# Altium schematic symbol library UCDFR IC's.SchLib: 16 symbols
Pins are listed as number, name and electrical type; pins without a type are passive.

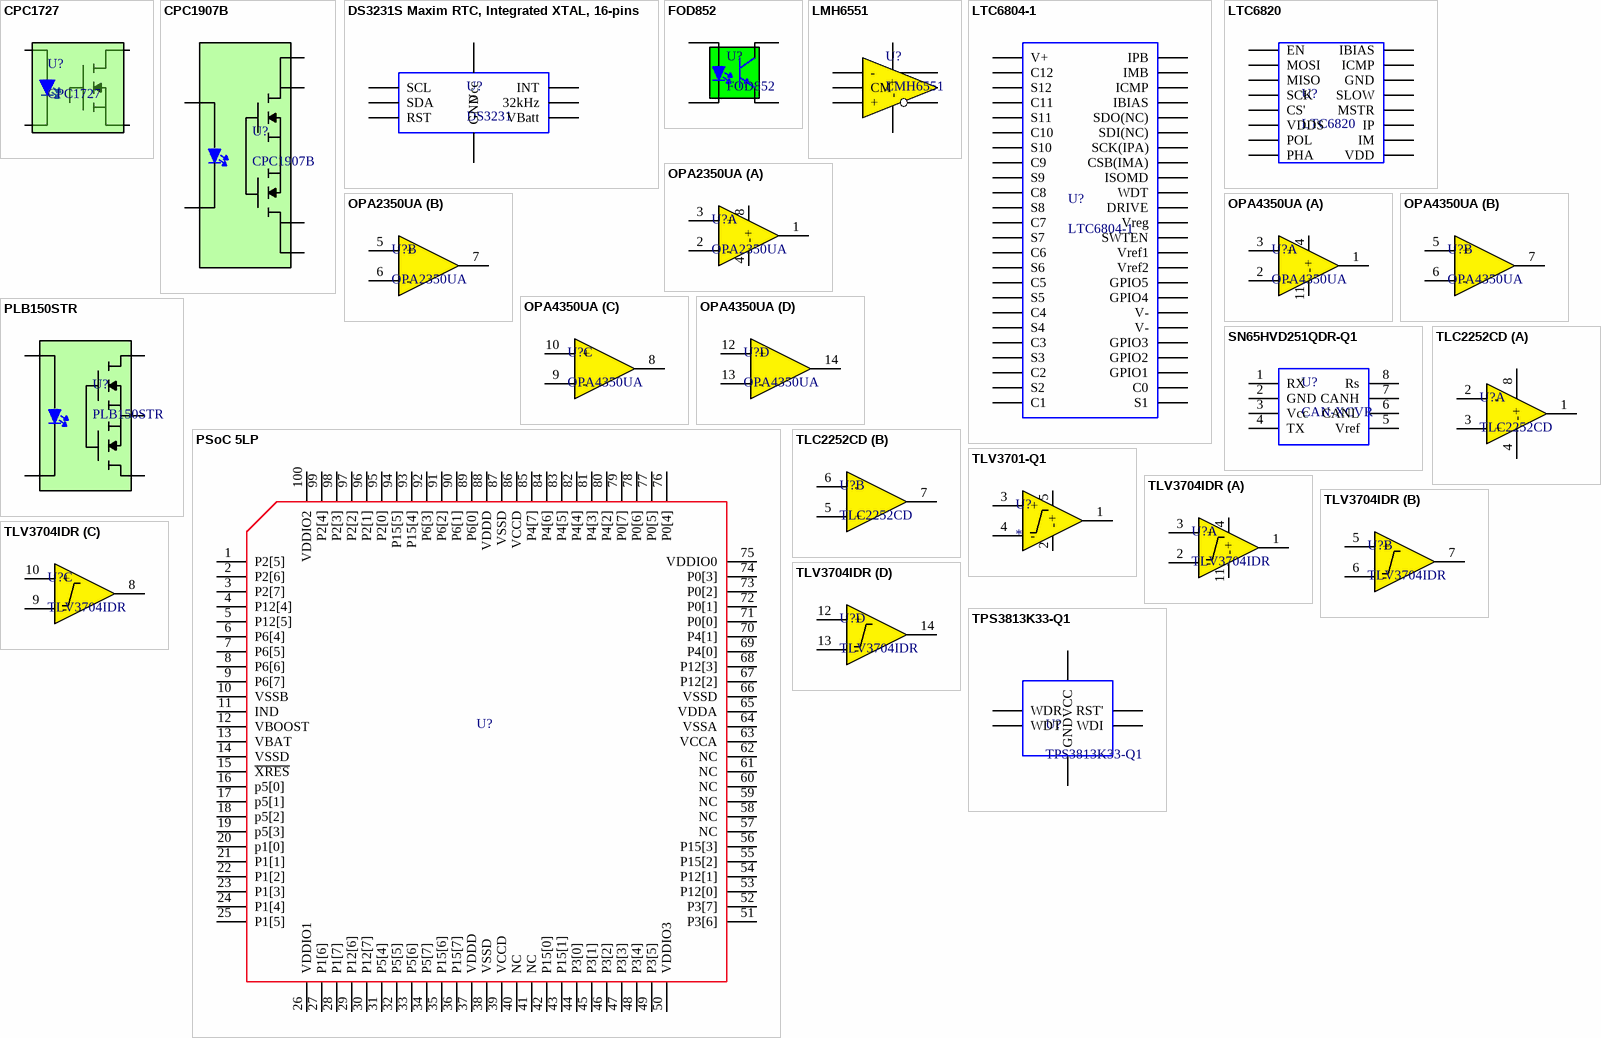
[diagram p0: symbols CPC1727 to TPS3813K33-Q1]

## CPC1727
designator U?
IXYS, SS Relay, 250V, 3.4A; Mfg. PN: CPC1727J; Manufacturer: IXYS; Digi-Key PN: CLA316-ND
footprint CPC1727 (IXYS, CPC1727, SS Relay)
pins: 1, 2, 3, 4

## CPC1907B
designator U?
IXYS, PhotoMOS, 6A, 60V, 1.4Vf, 5mAf; Forward Current: 5mA; Forward Voltage Drop: 1.4V; Mfg. PN: CPC1907B; Digi-Key PN: CLA394-ND
footprint 8-SOP
pins: 2, 3, 5, 6, 7, 8

## DS3231S Maxim RTC, Integrated XTAL, 16-pins
designator U?, comment DS3231
Maxim DS3231 RTC, Internal XTAL, 16-pins; Mfg PN: DS3231S; Manufacturer: Maxim
footprint DS3231S (Maxium DS3231 RTC, 16-pins)
pins: 1 32kHz, 2 Vcc, 3 INT, 4 RST, 13 GND, 14 VBatt, 15 SDA, 16 SCL

## FOD852
designator U?
Fairchild FOD852, Optoisolator; Mfg. PN: FOD852SD; Manufacturer: Fairchild; Digi-Key PN: FOD852SDCT-ND
footprint 4-DIP SM (4-Pin DIP Surface Mount)
pins: 1, 2, 3, 4

## LMH6551
designator U?
TI, LMH6551, Differential Amplifier; Manufacturer: Texas Instruments
footprint 8-SOIC
pins: 1 -, 2 CM, 3 +, 4 Out+, 5 Out-, 6 -, 8 +

## LTC6804-1
designator U?
LTC, 12 Cell Battery Monitor; Manufacturer: Linear Technology; Mfg. PN: LTC6804-1
footprint 48-SSOP (48 pin SSOP)
pins: 1 V+, 2 C12, 3 S12, 4 C11, 5 S11, 6 C10, 7 S10, 8 C9, 9 S9, 10 C8, 11 S8, 12 C7, 13 S7, 14 C6, 15 S6, 16 C5, 17 S5, 18 C4, 19 S4, 20 C3, 21 S3, 22 C2, 23 S2, 24 C1, 25 S1, 26 C0, 27 GPIO1, 28 GPIO2, 29 GPIO3, 30 V-, 31 V-, 32 GPIO4, 33 GPIO5, 34 Vref2, 35 Vref1, 36 SWTEN, 37 Vreg, 38 DRIVE, 39 WDT, 40 ISOMD, 41 CSB(IMA), 42 SCK(IPA), 43 SDI(NC), 44 SDO(NC), 45 IBIAS, 46 ICMP, 47 IMB, 48 IPB

## LTC6820
designator U?
LTC6820, isoSPI Communications Interface; Manufacturer: Linear Technology
footprint 16-MSOP
pins: 1 EN, 2 MOSI, 3 MISO, 4 SCK, 5 CS', 6 VDDS, 7 POL, 8 PHA, 9 VDD, 10 IM, 11 IP, 12 MSTR, 13 SLOW, 14 GND, 15 ICMP, 16 IBIAS

## OPA2350UA
designator U?
IC DUAL OpAmp 8-SOIC; Manufacturer: Texas Instruments; Mfg. PN: OPA2350UA
footprint 8-SOIC
part A pins: 1 1OUT, 2 - "1IN-", 3 + "1IN+", 4 - (power) "Ground", 8 + (power) "Power Vcc"
part B pins: 5 + "2IN+", 6 - "2IN-", 7 2OUT

## OPA4350UA
designator U?
IC QUAD OpAmp 14-SOIC; Manufacturer: Texas Instruments; Mfg. PN: OPA4350UA
footprint 14-SOIC (IC QUAD COMP P-P NANOPWR 14-SOIC)
part A pins: 1 1OUT, 2 - "1IN-", 3 + "1IN+", 4 + (power) "Power Vcc", 11 - (power) "Ground"
part B pins: 5 + "2IN+", 6 - "2IN-", 7 2OUT
part C pins: 8 3OUT, 9 - "3IN-", 10 + "3IN+"
part D pins: 12 + "4IN+", 13 - "4IN-", 14 4OUT

## PLB150STR
designator U?
IXYS Normally Closed, PhotoMOS, 250V, 350mADC; Mfg. PN: PLB150STR; Digi-Key PN: CLA229CT-ND
footprint PLB150S (IXYS PhotoMOS)
pins: 1, 2, 4, 5, 6

## PSoC 5LP
designator U?
PSoC 5LP; Mfg. PN: *
footprint TQFP-100_16x16-MD (TQFP, 100-Leads, Body 16.3x16.3mm (max), Pitch 0.50mm, Medium Density)
pins: 1 P2[5], 2 P2[6], 3 P2[7], 4 P12[4], 5 P12[5], 6 P6[4], 7 P6[5], 8 P6[6], 9 P6[7], 10 VSSB, 11 IND, 12 VBOOST, 13 VBAT, 14 VSSD, 15 ~{XRES}, 16 p5[0], 17 p5[1], 18 p5[2], 19 p5[3], 20 p1[0], 21 P1[1], 22 P1[2], 23 P1[3], 24 P1[4], 25 P1[5], 26 VDDIO1, 27 P1[6], 28 P1[7], 29 P12[6], 30 P12[7], 31 P5[4], 32 P5[5], 33 P5[6], 34 P5[7], 35 P15[6], 36 P15[7], 37 VDDD, 38 VSSD, 39 VCCD, 40 NC, 41 NC, 42 P15[0], 43 P15[1], 44 P3[0], 45 P3[1], 46 P3[2], 47 P3[3], 48 P3[4], 49 P3[5], 50 VDDIO3, 51 P3[6], 52 P3[7], 53 P12[0], 54 P12[1], 55 P15[2], 56 P15[3], 57 NC, 58 NC, 59 NC, 60 NC, 61 NC, 62 NC, 63 VCCA, 64 VSSA, 65 VDDA, 66 VSSD, 67 P12[2], 68 P12[3], 69 P4[0], 70 P4[1], 71 P0[0], 72 P0[1], 73 P0[2], 74 P0[3], 75 VDDIO0, 76 P0[4], 77 P0[5], 78 P0[6], 79 P0[7], 80 P4[2], 81 P4[3], 82 P4[4], 83 P4[5], 84 P4[6], 85 P4[7], 86 VCCD, 87 VSSD, 88 VDDD, 89 P6[0], 90 P6[1], 91 P6[2], 92 P6[3], 93 P15[4], 94 P15[5], 95 P2[0], 96 P2[1], 97 P2[2], 98 P2[3], 99 P2[4], 100 VDDIO2

## SN65HVD251QDR-Q1
designator U?, comment CAN-XCVR
TI, CAN Transceiver, 5V; Mfg. PN: SN65HVD251QDR-Q1
footprint 8-SOIC (CAN XCVR 296-24565-1-ND)
pins: 1 RX, 2 GND, 3 Vcc, 4 TX, 5 Vref, 6 CANL, 7 CANH, 8 Rs

## TLC2252CD
designator U?
IC OPAMP GP 210KHZ RRO 8SOIC; Manufacturer: Texas Instruments; Mfg. PN: TLC2252CD
footprint 8-SOIC (CAN XCVR 296-24565-1-ND)
part A pins: 1 1OUT, 2 - "1IN-", 3 + "1IN+", 4 - (power) "GND", 8 + (power) "VDD+"
part B pins: 5 + "2IN+", 6 - "2IN-", 7 2OUT

## TLV3701-Q1
designator U?
TI, Automotive Comparator, 1 channel; Mfg. PN: TLV701-Q1
footprint SOT23-5
pins: 1 1OUT, 2 - "Ground", 3 + "1IN+", 4 - "1IN-", 5 + "Power Vcc"

## TLV3704IDR
designator U?
IC QUAD COMP P-P NANOPWR 14-SOIC; Manufacturer: Texas Instruments; Mfg. PN: TLV3704IDR
footprint 14-SOIC (IC QUAD COMP P-P NANOPWR 14-SOIC)
part A pins: 1 1OUT, 2 - "1IN-", 3 + "1IN+", 4 + (power) "Power Vcc", 11 - (power) "Ground"
part B pins: 5 + "2IN+", 6 - "2IN-", 7 2OUT
part C pins: 8 3OUT, 9 - "3IN-", 10 + "3IN+"
part D pins: 12 + "4IN+", 13 - "4IN-", 14 4OUT

## TPS3813K33-Q1
designator U?
TI, Watchdog Timer; Texas Instruments: TPS3813K33-Q1; Mfg. PN: TPS3813K33-Q1
footprint SOT-23-6
pins: 1 WDI, 2 GND, 3 WDT, 4 VCC, 5 WDR, 6 RST'